# Altium footprint library Mechanical_3D.PcbLib: 98 footprints (part 1 of 7)
Each footprint in its own frame and in the unit in brackets; x right, y up, seen from the top. Pads: shape width x height; smd on the part's side, far side on the other; paste and mask are expansions set on the pad; w line width, h text height; cw(c..) or ccw(c..) is an arc to the next point about the centre after c.
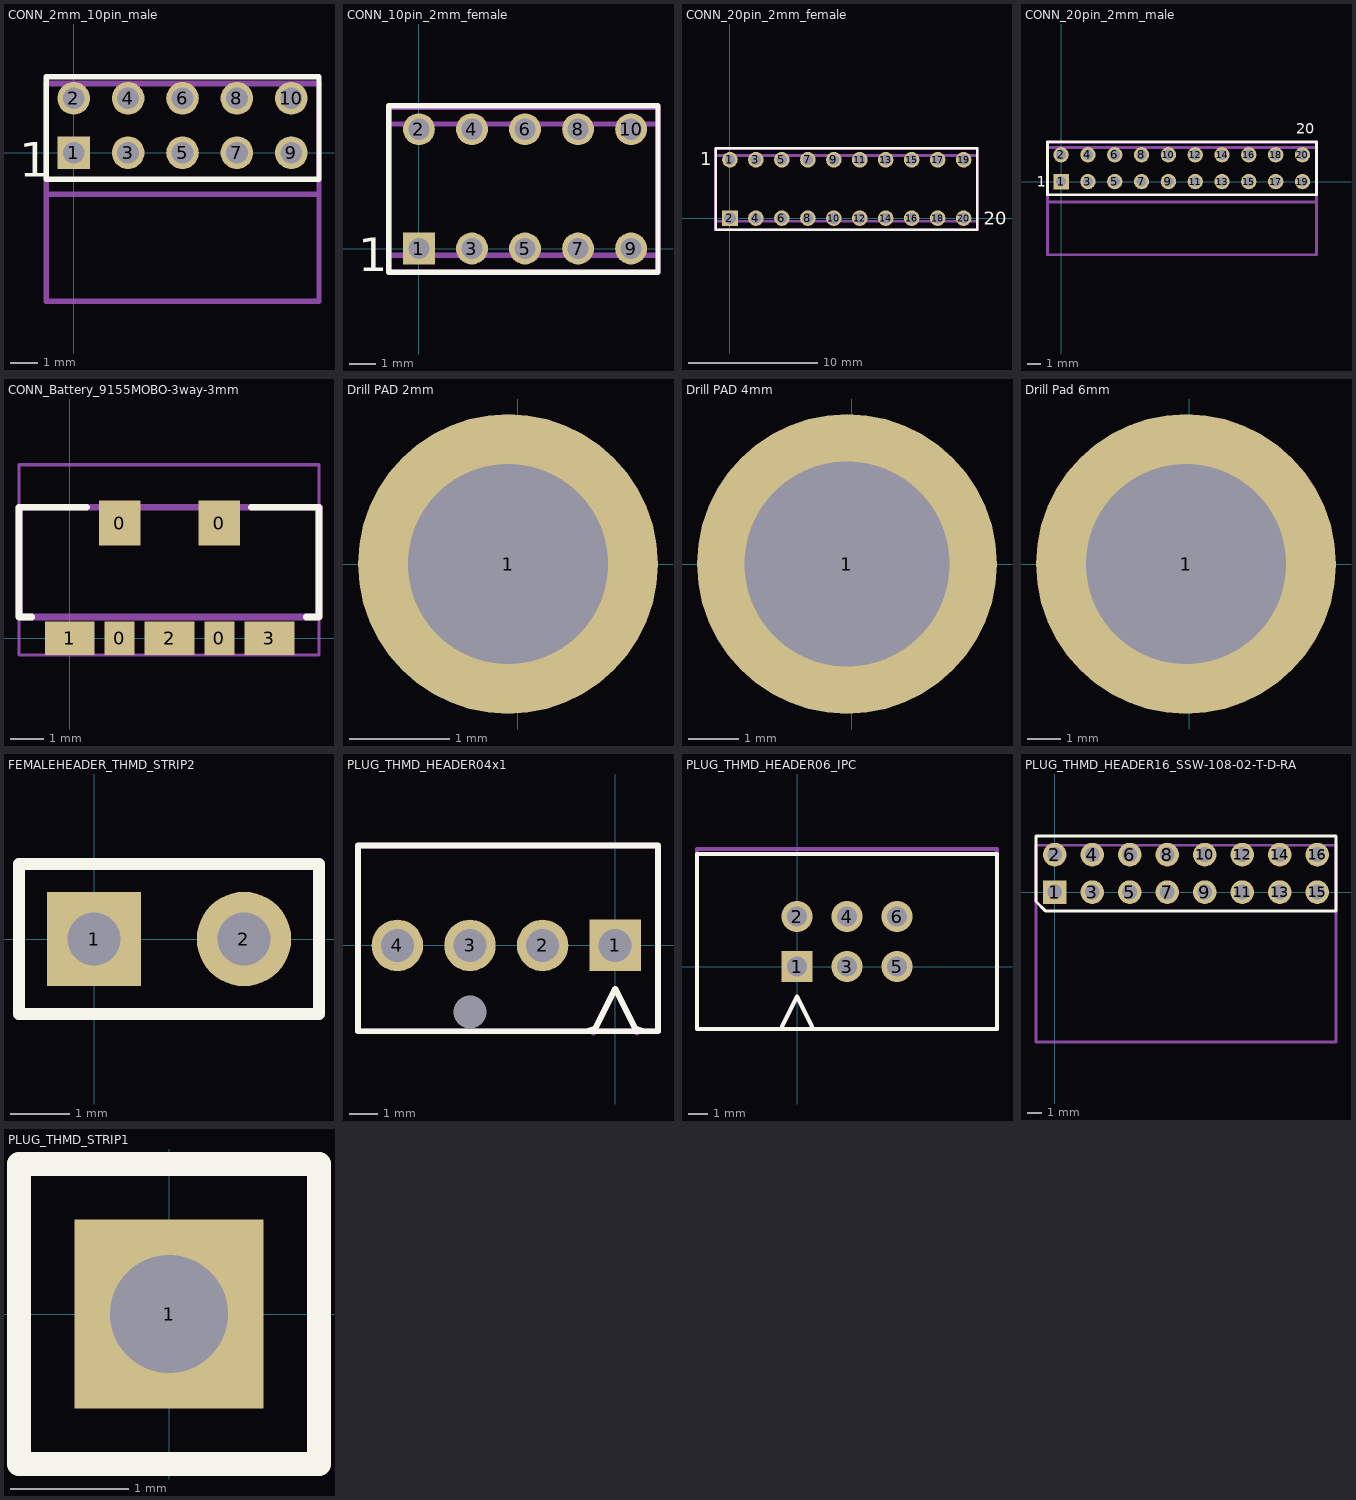
[diagram p0: the footprints below, top view; thin cyan lines are the x and y axes]

## CONN_2mm_10pin_male [mm] "MOLEX - 877601016 - STIFTLEISTE, MILLIGRID 10POL"
height 1
pads (10):
  rect 1.2x1.2 hole 0.8: 1(0,0)
  round 1.2 hole 0.8: 2(0,2) 3(2,0) 4(2,2) 5(4,0) 6(4,2) 7(6,0) 8(6,2) 9(8,0) 10(8,2)
Top Overlay:
  lines w0.2: -1.01,-0.98 9.017,-0.98 9.017,2.794 -1.01,2.794 -1.01,-0.98
  text "1" at -2.01,-0.89 h1.27
Mechanical 13:
  lines w0.2: -0.965,2.552 9.017,2.552 9.017,-1.524 -1.016,-1.524 -1.016,2.552 -0.889,2.552
Mechanical 15:
  lines w0.2: -1.016,-5.461 -1.016,2.54 9.017,2.54 9.017,-5.461 -1.016,-5.461
3D body "CONN-2MM-10PIN_FEMALE.stp": height 4.3, standoff -2.6, extent -0.965,-5.448 9.035,2.552

## CONN_10pin_2mm_female [mm] "MOLEX - 87264-1052 - SOCKET, RIGHT ANGLE, M/GRID, 10WAY"
height 1
pads (10):
  rect 1.2x1.2 hole 0.8: 1(0,0)
  round 1.2 hole 0.8: 2(0,4.5) 3(2,0) 4(2,4.5) 5(4,0) 6(4,4.5) 7(6,0) 8(6,4.5) 9(8,0) 10(8,4.5)
Top Overlay:
  lines w0.2: -1.143,-0.89 -1.143,5.38 9.017,5.38 9.017,-0.89 -1.143,-0.89
  text "1" at -2.3,-0.85 h1.27
Mechanical 13:
  lines w0.2: -1.143,-0.254 -1.143,4.699 9.017,4.699 9.017,-0.254 -1.143,-0.254
Mechanical 15:
  lines w0.2: -1.143,-0.889 -1.143,5.334 9.017,5.334 9.017,-0.889 -1.143,-0.889
3D body "CONN-2MM-10PIN_FEMALE.stp": height 4.01, standoff -2.54, extent -1.081,-0.29 9.119,4.71

## CONN_20pin_2mm_female [mm] "Conn recept 2mm 20 pos side entry"
height 4
pads (20):
  round 1.2 hole 0.8: 1(0,4.5) 3(2,4.5) 4(2,0) 5(4,4.5) 6(4,0) 7(6,4.5) 8(6,0) 9(8,4.5) 11(10,4.5) 12(10,0) 13(12,4.5) 14(12,0) 15(14,4.5) 16(14,0) 17(16,4.5) 18(16,0) 19(18,4.5) 20(18,0)
  rect 1.2x1.2 hole 0.9: 2(0,0)
  round 1.2 hole 0.9: 10(8,0)
Top Overlay:
  lines w0.2: -1.1,-0.89 -1.1,5.38 19.05,5.38 19.05,-0.89 -1.1,-0.89
  text "1" at -2.286,4.064 h1.02
  text "20" at 19.558,-0.508 h1.02
Mechanical 13:
  lines w0.2: -1.143,-0.254 -1.143,4.826 19.05,4.826 19.05,-0.254 -1.143,-0.254
Mechanical 15:
  lines w0.2: -1.143,-0.889 -1.143,5.334 19.05,5.334 19.05,-0.889 -1.143,-0.889
3D body "CONN-2MM-10PIN_FEMALE.stp": height 4, standoff -2.55, extent -1.036,-0.214 9.164,4.786
3D body "CONN-2MM-10PIN_FEMALE.stp": height 4, standoff -2.55, extent 8.87,-0.214 19.07,4.786
3D body "CONN-2MM-10PIN_FEMALE.stp": height 4, standoff -2.55, extent 2.901,-0.214 13.101,4.786

## CONN_20pin_2mm_male [mil] "Conn Header 20 pos 2mm top entry"
height 169.29
pads (20):
  rect 45x45 hole 30: 1(0,0)
  round 45 hole 30: 2(0,78.74) 3(78.74,0) 4(78.74,78.74) 5(157.48,0) 6(157.48,78.74) 7(236.22,0) 8(236.22,78.74) 9(314.96,0) 10(314.96,78.74) 11(393.7,0) 12(393.7,78.74) 13(472.44,0) 14(472.44,78.74) 15(551.18,0) 16(551.18,78.74) 17(629.92,0) 18(629.92,78.74) 19(708.66,0) 20(708.66,78.74)
Top Overlay:
  lines w7.87: -39.76,-38.58 750,-38.58 750,116.93 -39.76,116.93 -39.76,-38.58
  text "20" at 690,140 h31.5
  text "1" at -70.87,-15.75 h31.5
Mechanical 13:
  lines w7.87: -40,-60 750,-60 750,100 -40,100 -40,-60
Mechanical 15:
  lines w7.87: -40,-215 750,-215 750,115 -40,115 -40,-215
3D body "CONN-2MM-10PIN_MALE.stp": height 169.29, standoff -102.36, extent 353.15,-213.94 746.85,101.02
3D body "CONN-2MM-10PIN_MALE.stp": height 169.29, standoff -102.36, extent -36.85,-213.94 356.85,101.02

## CONN_Battery_9155MOBO-3way-3mm [mm] "AVX 9155 MOBO®  3.0mm Pitch Right Angle  Battery Connectors"
pads (7):
  rect 0.9x1 smd paste+0 mask+0: 0(1.5,0) 0(4.5,0)
  rect 1.25x1.35 smd paste+0 mask+0: 0(1.5,3.46) 0(4.5,3.46)
  rect 1.5x1 smd paste+0 mask+0: 1(0,0) 2(3,0) 3(6,0)
Top Overlay:
  lines w0.2: -1.143,0.635 -1.524,0.635 -1.524,3.937 0.508,3.937 ; 5.461,3.937 7.493,3.937 7.493,0.635 7.112,0.635
Mechanical 13:
  lines w0.2: -1.524,0.635 7.493,0.635 7.493,3.937 -1.524,3.937 -1.524,0.635
Mechanical 15:
  lines w0.1: -1.524,-0.508 -1.524,5.207 7.493,5.207 7.493,-0.508 -1.524,-0.508
3D body "CONN-Battery-3way-AVX-9155-003-301-xxx3.stp": height 6.14, standoff 0, extent -1.453,-0.329 7.447,5.237

## Drill PAD 2mm [mm] "2mm Drill Pad with 3mm Soldermask"
pads (1):
  round 3 hole 2 paste+0 mask+0.102: 1(-0.1,0)

## Drill PAD 4mm [mm] "4mm Drill Pad with 3mm Soldermask"
pads (1):
  round 6 hole 4.1 paste+0 mask+0.102: 1(-0.1,0)

## Drill Pad 6mm [mm] "6mm Drill Pad with 3mm - Soldermask"
pads (1):
  round 9 hole 6 paste+0 mask-0.152: 1(-0.1,0)

## FEMALEHEADER_THMD_STRIP2 [mm] "Fischer BL-5"
height 7
pads (2):
  rect 1.6x1.6 / inner round 1.524 / far side rect 1.6x1.6 hole 0.9 paste+0 mask+0: 1(0,0)
  round 1.6 / inner round 1.524 / far side round 1.6 hole 0.9 paste+0 mask+0: 2(2.54,0)
Top Overlay:
  lines w0.203: -1.27,-1.27 -1.27,1.27 3.81,1.27 3.81,-1.27 -1.27,-1.27
Mechanical 13:
  lines w0.203: -1.27,-1.27 3.81,-1.27 3.81,1.27 -1.27,1.27 -1.27,-1.27
  text "1" at -2.156,-0.448 h0.95
3D body "BL5-2.STEP": height 7.02, standoff -3.08, extent -1.27,-1.27 3.81,1.27

## Jumper black [mm]
3D body "Jumper_black.stp": height 5.97, standoff 0, extent -1.22,-2.49 1.22,2.49

## Jumper grip black [mm]
3D body "Jumper_grip_black.stp": height 13.75, standoff 0, extent -1.27,-2.49 1.27,2.49

## Jumper grip blue [mm]
3D body "Jumper_grip_blue.stp": height 13.75, standoff 0, extent -1.27,-2.998 1.27,1.982

## PLUG_THMD_HEADER04x1 [mm] "Wieson G2450C219-002"
pads (5):
  round 0 hole 1.15 unplated mask+0: 0(-5.08,-2.33)
  rect 1.8x1.8 hole 1.15 paste+0 mask+0: 1(0,0)
  round 1.8 hole 1.15 paste+0 mask+0: 2(-2.54,0) 3(-5.08,0) 4(-7.62,0)
Top Overlay:
  lines w0.203: -1,-3 -0.686,-2.895 0.006,-1.512 0.7,-2.9 1,-3 ; -9,-3 -9,3.5 1.5,3.5 1.5,-3 -9,-3
Mechanical 13:
  lines w0.203: -0.762,-3.048 0,-1.524 0.762,-3.048 ; -9,-3 -9,3.5 1.5,3.5 1.5,-3 -9,-3
Mechanical 15:
  lines w0.2: -9,-3 -9,3.5 1.5,3.5 1.5,-3 -9,-3

## PLUG_THMD_HEADER06_IPC [mm]
pads (6):
  rect 1.6x1.6 / inner round 1.524 / far side rect 1.6x1.6 hole 1 paste+0 mask+0: 1(0,0)
  round 1.6 / inner round 1.524 / far side round 1.6 hole 1 paste+0 mask+0: 2(0,2.54) 3(2.54,0) 4(2.54,2.54) 5(5.08,0) 6(5.08,2.54)
Top Overlay:
  lines w0.203: -0.762,-3.048 0,-1.524 0.762,-3.048 ; -5.08,-3.175 10.16,-3.175 10.16,5.715 -5.08,5.715 -5.08,-3.175
Mechanical 13:
  lines w0.203: -0.762,-3.048 0,-1.524 0.762,-3.048 ; -5.08,-3.175 10.16,-3.175 10.16,5.969 -5.08,5.969 -5.08,-3.175
Mechanical 15:
  lines w0.2: -5.08,-3.175 10.16,-3.175 10.16,5.969 -5.08,5.969 -5.08,-3.175
3D body "Header6_Harting_09185067324.stp": height 9.45, standoff -3.2, extent -5.08,-3.18 10.16,6.02

## PLUG_THMD_HEADER16_SSW-108-02-T-D-RA [mm] "SAMTEC SSW-108-02-T-D-RA"
height 5
pads (16):
  rect 1.6x1.6 / inner round 1.6 / far side rect 1.6x1.6 hole 1 paste+0 mask+0: 1(0,0)
  round 1.6 hole 1 paste+0 mask+0: 2(0,2.54) 3(2.54,0) 4(2.54,2.54) 5(5.08,0) 6(5.08,2.54) 7(7.62,0) 8(7.62,2.54) 9(10.16,0) 10(10.16,2.54) 11(12.7,0) 12(12.7,2.54) 13(15.24,0) 14(15.24,2.54) 15(17.78,0) 16(17.78,2.54)
Top Overlay:
  lines w0.203: -1.27,-0.635 -0.635,-1.27 19.05,-1.27 19.05,3.81 -1.27,3.81 -1.27,-0.635
Mechanical 15:
  lines w0.2: -1.27,-10.16 -1.27,3.175 19.05,3.175 19.05,-10.16 -1.27,-10.16
3D body "SAMTEC-SSW-108-02-T-D-RA.STEP": height 5.04, standoff -1, extent -1.245,-10.02 19.075,2.755

## PLUG_THMD_STRIP1 [mm]
pads (1):
  rect 1.6x1.6 / inner round 1.524 / far side rect 1.6x1.6 hole 1 paste+0 mask+0: 1(0,0)
Top Overlay:
  lines w0.203: -1.27,-1.27 -1.27,1.27 1.27,1.27 1.27,-1.27 -1.27,-1.27
Mechanical 13:
  lines w0.203: -1.27,-1.27 -1.27,1.27 1.27,1.27 1.27,-1.27 -1.27,-1.27
  text "1" at -2.156,-0.448 h0.95
Mechanical 15:
  lines w0.203: -1.27,-1.27 -1.27,1.27 1.27,1.27 1.27,-1.27 -1.27,-1.27
3D body "Stripline_1.stp": height 8.57, standoff -2.97, extent -1.27,-1.27 1.27,1.27